# Altium footprint library PcbLib1.PcbLib: 18 footprints (part 2 of 2)
Each footprint in its own frame and in the unit in brackets; x right, y up, seen from the top. Pads: shape width x height; smd on the part's side, far side on the other; paste and mask are expansions set on the pad; w line width, h text height; cw(c..) or ccw(c..) is an arc to the next point about the centre after c.
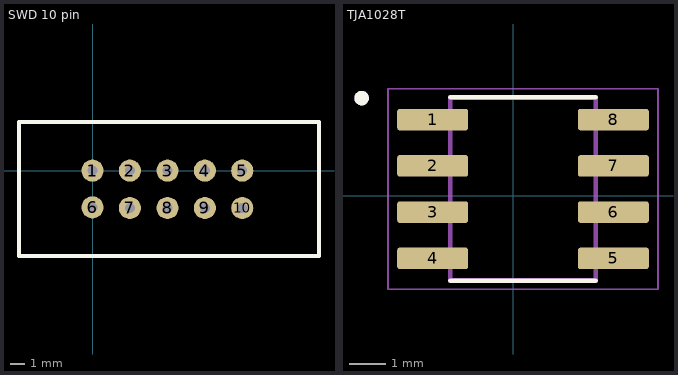
[diagram p1: the footprints below, top view; thin cyan lines are the x and y axes]

## SWD 10 pin [mm]
pads (10):
  round 1.5 hole 0.68 square: 1(0,0) 2(2.54,0) 3(5.1,0) 4(7.64,0) 5(10.18,0) 6(0,-2.5) 7(2.54,-2.54) 8(5.1,-2.54) 9(7.64,-2.54) 10(10.18,-2.54)
Top Overlay:
  lines w0.254: -5,-5.8 -5,3.3 15.4,3.3 15.4,-5.8 -5,-5.8

## TJA1028T [mm]
pads (8):
  rrect25% 1.95x0.59 smd: 1(-2.21,2.088) 2(-2.21,0.818) 3(-2.21,-0.452) 4(-2.21,-1.722) 5(2.75,-1.722) 6(2.75,-0.452) 7(2.75,0.818) 8(2.75,2.088)
Top Overlay:
  circle w0.2: c-4.16,2.678 r0.1
  lines w0.127: -1.73,-2.337 2.27,-2.337 ; -1.73,2.703 2.27,2.703
Mechanical 13:
  circle w0.2: c-4.16,2.678 r0.1
  lines w0.127: -1.73,-2.317 -1.73,2.683 2.27,2.683 2.27,-2.317 -1.73,-2.317
Mechanical 15:
  lines w0.05: -3.435,-2.567 -3.435,2.933 3.975,2.933 3.975,-2.567 -3.435,-2.567
3D body "TJA1028T_3V3_20_1J.STEP": height 1.75, standoff 0, extent -2.7,-2.35 3.3,2.55